# Altium schematic symbol library LDO_Microchip_MIC69502WR-TR_ADJ.SchLib: 1 symbol
Pins are listed as number, name and electrical type; pins without a type are passive.

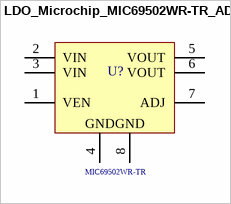
[diagram p0: symbol LDO_Microchip_MIC69502WR-TR_ADJ]

## LDO_Microchip_MIC69502WR-TR_ADJ
designator U?  Series: MIC69502WR-TR  (hidden comment: *)
LDO Voltage Regulators 5A Low VIN LDO Regulator with 0.5Vref; Supplier Part Number 1: 998-MIC69502WRTR; Supplier 1: Mouser
footprint LDO_Microchip_MIC69502WR-TR_ADJ
pins: 1 VEN (power) "Input Voltage Connection.", 2 VIN (power) "Input Voltage Connection.", 3 VIN (power) "Input Voltage Connection.", 4 GND (power) "Ground.", 5 VOUT (power) "Output Voltage.", 6 VOUT (power) "Output Voltage.", 7 ADJ (power) "Output Voltage.", 8 GND (power) "Ground."